# EAGLE library part TXS0108E (library PrjBlinkenlights)
TXS0108E 8-BIT BIDIRECTIONAL VOLTAGE-LEVEL TRANSLATOR FOR OPEN-DRAIN AND PUSH-PULL APPLICATIONS
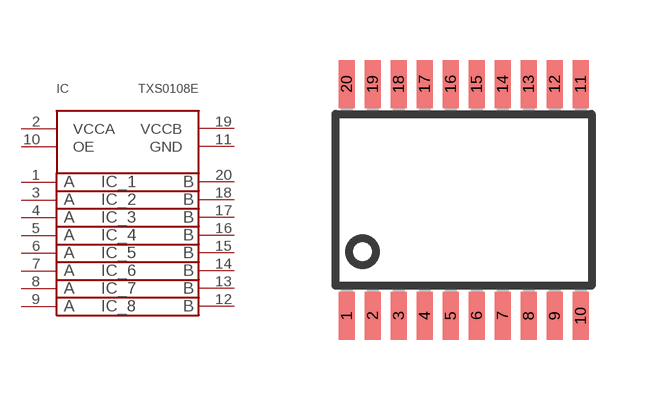
[diagram p3: symbol with the pads of PW_R-PDSO-G20; footprint PW_R-PDSO-G20]

Designator prefix IC; gates =TXS-COMMON _1=TXS-GATE _2=TXS-GATE _3=TXS-GATE _4=TXS-GATE _5=TXS-GATE _6=TXS-GATE _7=TXS-GATE _8=TXS-GATE

## TXS0108EPW  [PW_R-PDSO-G20]
1  _1:A
2  :VCCA  pwr
3  _2:A
4  _3:A
5  _4:A
6  _5:A
7  _6:A
8  _7:A
9  _8:A
10  :OE  pwr
11  :GND  pwr
12  _8:B
13  _7:B
14  _6:B
15  _5:B
16  _4:B
17  _3:B
18  _2:B
19  :VCCB  pwr
20  _1:B

## Footprint PW_R-PDSO-G20 (pad centres in mm)
PLASTIC SMALL-OUTLINE PACKAGE SO 20 JEDEC MO-153, PW Type Source: www.ti.com/.. slvs087l.pdf
smd 0.4 x 1.2: 1 -2.925,-2.9; 2 -2.275,-2.9; 3 -1.625,-2.9; 4 -0.975,-2.9; 5 -0.325,-2.9; 6 0.325,-2.9; 7 0.975,-2.9; 8 1.625,-2.9; 9 2.275,-2.9; 10 2.925,-2.9; 11 2.925,2.9; 12 2.275,2.9; 13 1.625,2.9; 14 0.975,2.9; 15 0.325,2.9; 16 -0.325,2.9; 17 -0.975,2.9; 18 -1.625,2.9; 19 -2.275,2.9; 20 -2.925,2.9